# Altium footprint library MLACHD_D.PCBLIB: 41 footprints (part 1 of 3)
Each footprint in its own frame and in the unit in brackets; x right, y up, seen from the top. Pads: shape width x height; smd on the part's side, far side on the other; paste and mask are expansions set on the pad; w line width, h text height; cw(c..) or ccw(c..) is an arc to the next point about the centre after c.
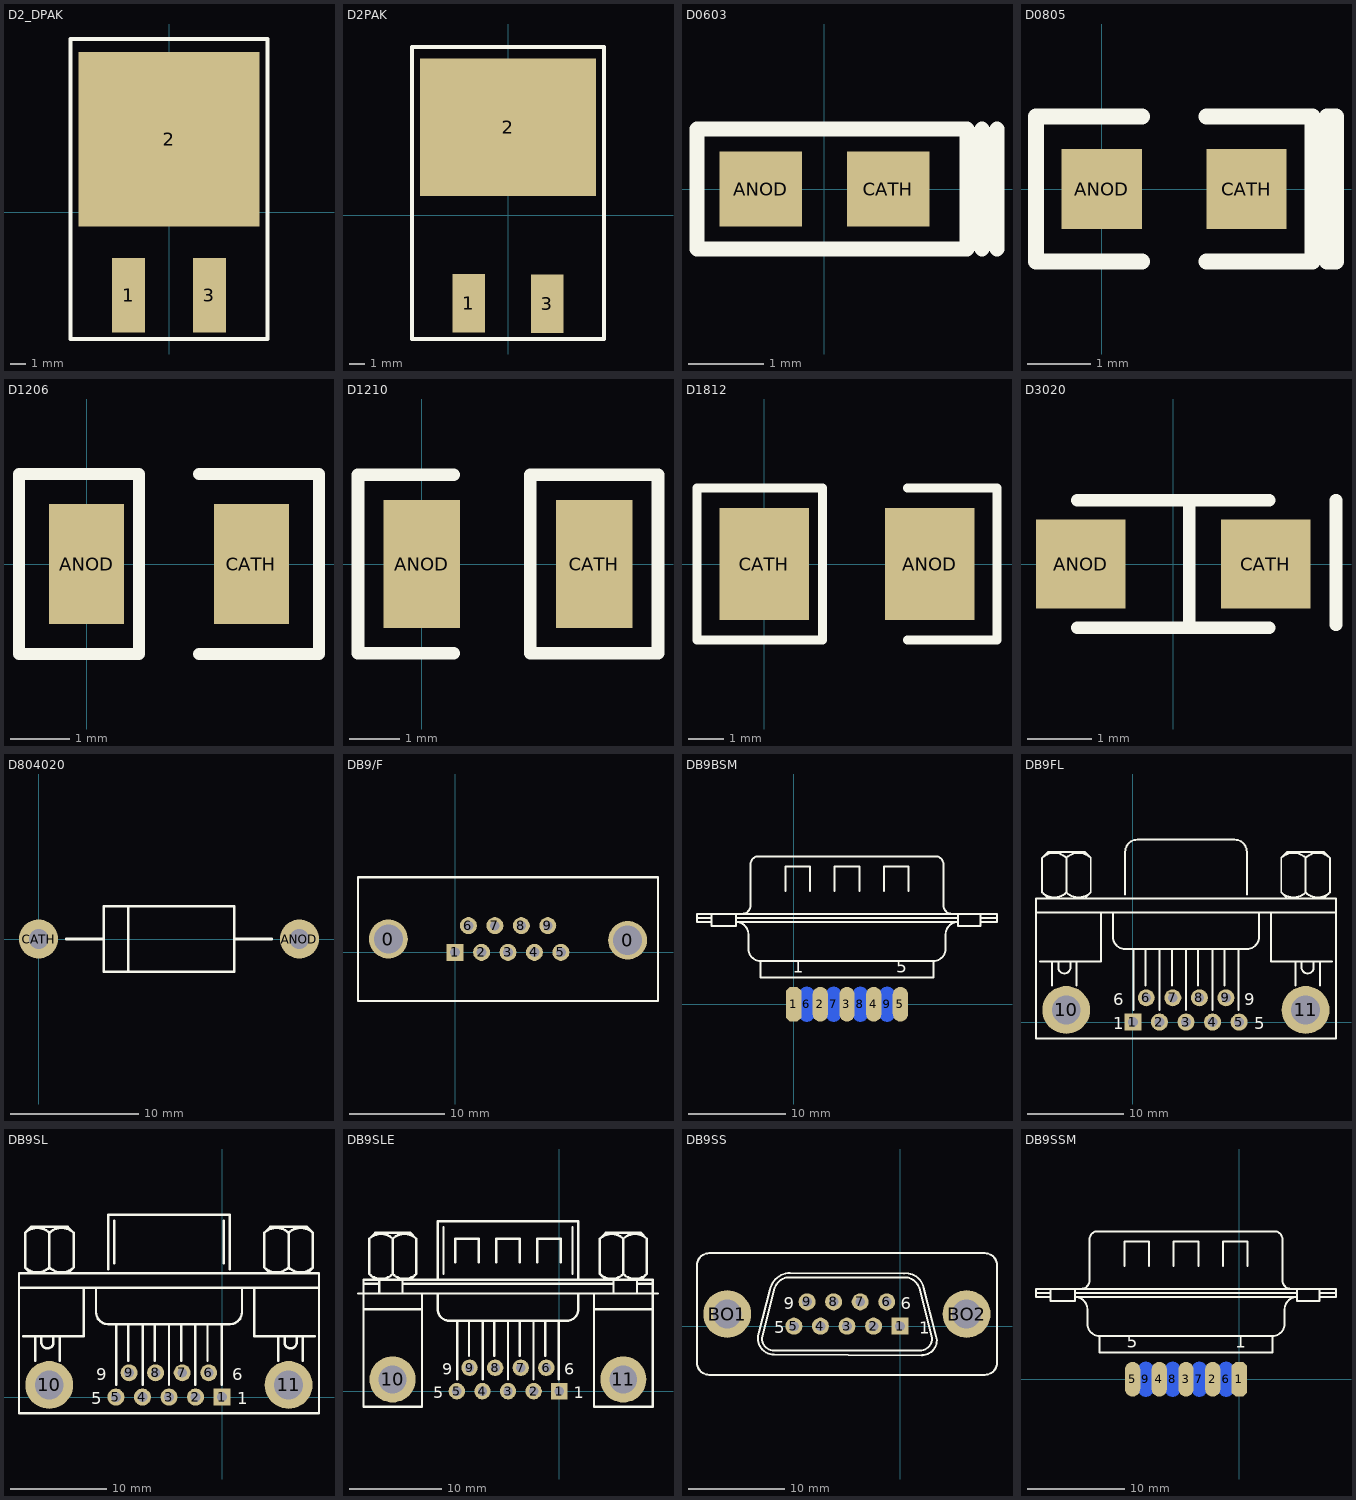
[diagram p0: the footprints below, top view; thin cyan lines are the x and y axes]

## D2_DPAK [mm]
pads (3):
  rect 2.083x4.7 smd paste-1.5: 1(-2.54,-5.255) 3(2.54,-5.255)
  rect 11.4x11 smd paste-3: 2(0,4.6)
TopOverlay:
  lines w0.254: -6.223,-8.001 -6.223,10.922 6.223,10.922 6.223,-8.001 -6.223,-8.001
TopPaste:
  region: -5.6,10 5.6,10 5.6,1.2 2.9,1.2 2.9,-0.8 -2.9,-0.8 -2.9,1.2 -5.6,1.2
  region: -3.1,-3 -1.6,-3 -1.6,-7.5 -3.5,-7.5 -3.5,-3.8 -3.1,-3.8
  region: 3.1,-3 1.6,-3 1.6,-7.5 3.5,-7.5 3.5,-3.8 3.1,-3.8
3D body: height 4.8, standoff 0, extent -5.4,-0.92 5.4,8.68
3D body: height 1.4, standoff 0, extent -5.4,2.78 5.4,9.88
3D body: height 3.2, standoff 2.7, extent -3.04,-3.58 -2.04,-0.92
3D body: height 3.2, standoff 0, extent -3.04,-3.58 -2.04,-2.98
3D body: height 0.5, standoff 0, extent -3.04,-5.88 -2.04,-2.98
3D body: height 0.5, standoff 0, extent 2.04,-5.88 3.04,-2.98
3D body: height 3.2, standoff 0, extent 2.04,-3.58 3.04,-2.98
3D body: height 3.2, standoff 2.7, extent 2.04,-3.58 3.04,-0.92

## D2PAK [mil]
pads (3):
  rect 82x150 smd: 1(-100,-224) 3(100,-225)
  rect 450x350 smd: 2(0,225)
TopOverlay:
  lines w10: -245,-315 -245,430 245,430 245,-315 -245,-315
3D body: height 188.98, standoff 0, extent -212.6,-36.22 212.6,341.73
3D body: height 55.12, standoff 0, extent -212.6,109.45 212.6,388.98
3D body: height 125.98, standoff 106.3, extent -119.69,-140.94 -80.31,-36.22
3D body: height 125.98, standoff 0, extent -119.69,-140.94 -80.31,-117.32
3D body: height 19.68, standoff 0, extent -119.69,-231.5 -80.31,-117.32
3D body: height 19.68, standoff 0, extent 80.31,-231.5 119.69,-117.32
3D body: height 125.98, standoff 0, extent 80.31,-140.94 119.69,-117.32
3D body: height 125.98, standoff 106.3, extent 80.31,-140.94 119.69,-36.22

## D0603 [mm]
pads (2):
  rect 1.1x1 smd: ANOD(-0.85,0) CATH(0.85,0)
TopOverlay:
  lines w0.2: 2.1,-0.8 2.1,0.8 ; 2.3,-0.8 2.3,0.8 ; -1.7,-0.8 -1.7,0.8 1.9,0.8 1.9,-0.8 -1.7,-0.8
3D body: height 1.35, standoff 0, extent 0.237,-0.6 0.537,0.6
3D body: height 1, standoff 0, extent -0.8,-0.4 -0.3,0.4
3D body: height 1, standoff 0, extent 0.4,-0.4 0.8,0.4
3D body: height 1, standoff 0, extent -0.3,-0.4 0.4,0.4
3D body: height 1.3, standoff 0, extent -0.764,-0.7 0.637,0.7
3D body: height 1.3, standoff 0, extent 0.637,-0.7 0.937,0.7
3D body: height 1.3, standoff 0, extent -1.064,-0.7 -0.764,0.7

## D0805 [mil]
pads (2):
  rect 50x50 smd: ANOD(0,0) CATH(90,0)
TopOverlay:
  lines w10: 25,-45 -41,-45 -41,45 25,45 ; 65,-45 131,-45 131,39.37 ; 65,45 131,45 ; 140,-45 145.67,-45 145.67,45 140,45 140,-45
3D body: height 51.18, standoff 0, extent 3.13,-27.56 14.94,27.56
3D body: height 51.18, standoff 0, extent 70.06,-27.56 81.87,27.56
3D body: height 51.18, standoff 0, extent 14.94,-27.56 70.06,27.56

## D1206 [mil]
pads (2):
  rect 50x80 smd: ANOD(0,0) CATH(110,0)
TopOverlay:
  lines w8: 75,-60 155,-60 155,60 75,60 ; -45,-60 35,-60 35,60 -45,60 -45,-60

## D1210 [mil]
pads (2):
  rect 60x100 smd: ANOD(0,0) CATH(135,0)
TopOverlay:
  lines w10: 25,-70 -50,-70 -50,70 25,70 ; 85,-70 85,70 185,70 185,-70 85,-70

## D1812 [mil]
pads (2):
  rect 100x125 smd: ANOD(185,0) CATH(0,0)
TopOverlay:
  lines w10: 160,-85 260,-85 260,85 160,85 ; -75,-85 -75,85 65,85 65,-85 -75,-85

## D3020 [mm]
pads (2):
  rect 1.4x1.4 smd: ANOD(-1.45,0) CATH(1.45,0)
TopOverlay:
  lines w0.2: -1.5,-1 1.5,-1 ; -1.5,1 1.5,1 ; 0.25,-1 0.25,1 ; 2.55,-0.95 2.55,1
3D body: height 1, standoff 0, extent -1.35,-1 1.35,1
3D body: height 1.3, standoff 1, extent -1.35,-1 1.35,1
3D body: height 1.4, standoff 1.3, extent -1.2,-0.85 1.2,0.85
3D body: height 0.65, standoff 0, extent 1.35,-0.7 1.5,0.7
3D body: height 0.65, standoff 0, extent -1.5,-0.7 -1.35,0.7

## D804020 [mil]
pads (2):
  round 120 hole 60: ANOD(800,0) CATH(0,0)
TopOverlay:
  lines w8: 85,0 200,0 ; 275,-100 275,100 ; 600,0 715,0 ; 200,-100 600,-100 600,100 200,100 200,-100

## DB9/F [mil]
pads (11):
  round 160 hole 120: 0(-275,55) 0(711,50)
  rect 70x70 hole 40: 1(0,0)
  round 70 hole 40: 2(109,0) 3(218,0) 4(327,0) 5(436,0) 6(55,110) 7(164,110) 8(273,110) 9(382,110)
TopOverlay:
  lines w8: -400,-200 836,-200 836,310
  lines w10: -400,-200 -400,310 836,310

## DB9BSM [mil]
pads (9):
  oct 62.5x141.67 smd: 1(0,0)
  oval 62.5x141.67 smd: 2(108.33,0) 3(216.67,0) 4(325,0) 5(433.33,0)
  oval 62.5x141.67 smd far side: 6(54.17,0) 7(162.5,0) 8(270.83,0) 9(379.17,0)
TopOverlay:
  lines w8: -391.67,350 -333.33,350 ; -333.33,333.33 -391.67,333.33 -391.67,366.67 825,366.67 825,333.33 758.33,333.33 ; -333.33,366.67 -333.33,316.67 -233.33,316.67 -233.33,366.67 ; -233.33,350 666.67,350 ; -208.33,366.67 ccw(c-208.33,400) -175,400 -175,566.67 cw(c-141.67,566.67) -141.67,600 575,600 cw(c575,566.67) 608.33,566.67 608.33,400 ccw(c641.67,400) 641.67,366.67 ; -33.33,458.33 -33.33,558.33 66.67,558.33 66.67,458.33 ; 166.67,458.33 166.67,558.33 266.67,558.33 266.67,458.33 ; 366.67,458.33 366.67,558.33 466.67,558.33 466.67,458.33 ; 666.67,366.67 666.67,316.67 758.33,316.67 758.33,366.67 ; 758.33,350 825,350 ; -133.33,175 cw(c-133.33,225) -183.33,225 -183.33,283.33 ccw(c-233.33,283.33) -233.33,333.33 666.67,333.33 ccw(c666.67,283.33) 616.67,283.33 616.67,225 cw(c566.67,225) 566.67,175 ; -133.33,175 566.67,175 ; -133.33,175 -133.33,108.33 566.67,108.33 566.67,175
  text "5" at 416.67,128.33 h50
  text "1" at -3.33,128.33 h50

## DB9FL [mil]
pads (11):
  rect 70x70 hole 40: 1(0,0)
  round 70 hole 40: 2(109.17,0) 3(218.33,0) 4(327.5,0) 5(436.67,0) 6(55,100) 7(164.17,100) 8(273.33,100) 9(382.5,100)
  round 196.67 hole 118.33: 10(-274.17,50) 11(710,50)
TopOverlay:
  lines w8: -398.33,450 835,450 ; -381.67,250 -131.67,250 -131.67,450 ; -373.42,533.25 ccw(c-323.33,583.33) -273.25,533.25 ; -373.42,675.09 cw(c-323.33,625) -273.25,675.09 ; -348.33,508.33 -373.33,533.33 -373.33,675 -348.33,700 -198.33,700 -173.33,675 -173.33,533.33 -198.33,508.33 ; -331.67,150 -331.67,250 ; -306.67,250 -306.67,225 ccw(c-281.67,225) -256.67,225 -256.67,250 ; -273.42,533.25 ccw(c-223.33,583.33) -173.25,533.25 ; -273.42,675.09 cw(c-223.33,625) -173.25,675.09 ; -273.33,533.33 -273.33,675 ; -231.67,150 -231.67,250 ; -81.67,450 -81.67,350 ccw(c-31.67,350) -31.67,300 468.33,300 ccw(c468.33,350) 518.33,350 518.33,450 ; -31.67,525 -31.67,700 cw(c18.33,700) 18.33,750 418.33,750 cw(c418.33,700) 468.33,700 468.33,525 ; 1.67,50 1.67,300 ; 51.67,150 51.67,300 ; 110,50 110,300 ; 160,150 160,300 ; 218.33,50 218.33,300 ; 268.33,150 268.33,300 ; 326.67,50 326.67,300 ; 376.67,150 376.67,300 ; 435,50 435,300 ; 568.33,450 568.33,250 818.33,250 ; 609.91,533.25 ccw(c660,583.33) 710.09,533.25 ; 609.91,675.09 cw(c660,625) 710.09,675.09 ; 635,508.33 610,533.33 610,675 635,700 785,700 810,675 810,533.33 785,508.33 ; 668.33,150 668.33,250 ; 693.33,250 693.33,225 ccw(c718.33,225) 743.33,225 743.33,250 ; 709.91,533.25 ccw(c760,583.33) 810.09,533.25 ; 709.91,675.09 cw(c760,625) 810.09,675.09 ; 710,533.33 710,675 ; 768.33,150 768.33,250 ; -398.33,-66.67 835,-66.67 835,508.33 -398.33,508.33 -398.33,-66.67
  text "9" at 458.33,70 h50
  text "5" at 498.33,-30 h50
  text "1" at -81.67,-30 h50
  text "6" at -81.67,70 h50
3D body: height 391.73, standoff -124.02, extent -401.57,-95.47 826.38,717.52

## DB9SL [mil]
pads (11):
  rect 70x70 hole 40: 1(0,0)
  round 70 hole 40: 2(-109.17,0) 3(-218.33,0) 4(-327.5,0) 5(-436.67,0) 6(-55,100) 7(-164.17,100) 8(-273.33,100) 9(-382.5,100)
  round 196.67 hole 118.33: 10(-710.83,50) 11(273.33,50)
TopOverlay:
  lines w10: -835,450 398.33,450 ; -818.33,250 -568.33,250 -568.33,450 ; -810.09,533.25 ccw(c-760,583.33) -709.91,533.25 ; -810.09,675.09 cw(c-760,625) -709.91,675.09 ; -785,508.33 -810,533.33 -810,675 -785,700 -635,700 -610,675 -610,533.33 -635,508.33 ; -768.33,150 -768.33,250 ; -743.33,250 -743.33,225 ccw(c-718.33,225) -693.33,225 -693.33,250 ; -710.09,533.25 ccw(c-660,583.33) -609.91,533.25 ; -710.09,675.09 cw(c-660,625) -609.91,675.09 ; -710,533.33 -710,675 ; -668.33,150 -668.33,250 ; -518.33,450 -518.33,350 ccw(c-468.33,350) -468.33,300 31.67,300 ccw(c31.67,350) 81.67,350 81.67,450 ; -468.33,525 -468.33,750 31.67,750 31.67,525 ; -443.33,550 -443.33,725 ; -435,50 -435,300 ; -385,150 -385,300 ; -326.67,50 -326.67,300 ; -276.67,150 -276.67,300 ; -218.33,50 -218.33,300 ; -168.33,150 -168.33,300 ; -110,50 -110,300 ; -60,150 -60,158.33 -60,300 ; -1.67,50 -1.67,300 ; 6.67,550 6.67,725 ; 131.67,450 131.67,250 381.67,250 ; 173.25,533.25 ccw(c223.33,583.33) 273.42,533.25 ; 173.25,675.09 cw(c223.33,625) 273.42,675.09 ; 198.33,508.33 173.33,533.33 173.33,675 198.33,700 348.33,700 373.33,675 373.33,533.33 348.33,508.33 ; 231.67,150 231.67,250 ; 256.67,250 256.67,225 ccw(c281.67,225) 306.67,225 306.67,250 ; 273.25,533.25 ccw(c323.33,583.33) 373.42,533.25 ; 273.25,675.09 cw(c323.33,625) 373.42,675.09 ; 273.33,533.33 273.33,675 ; 331.67,150 331.67,250 ; -835,-66.67 -835,508.33 398.33,508.33 398.33,-66.67 -835,-66.67
  text "9" at -518.33,70 h50
  text "5" at -538.33,-30 h50
  text "1" at 61.67,-30 h50
  text "6" at 41.67,70 h50

## DB9SLE [mil]
pads (11):
  rect 70x70 hole 40: 1(0,0)
  round 70 hole 40: 2(-109.17,0) 3(-218.33,0) 4(-327.5,0) 5(-436.67,0) 6(-55,100) 7(-164.17,100) 8(-273.33,100) 9(-382.5,100)
  round 196.67 hole 118.33: 10(-710.83,50) 11(273.33,50)
TopOverlay:
  lines w10: -858.27,416.67 421.26,416.67 ; -835,350 -585,350 ; -835,458.33 -768.33,458.33 ; -810.09,499.91 ccw(c-760,550) -709.91,499.91 ; -810.09,650.09 cw(c-760,600) -709.91,650.09 ; -785,475 -810,500 -810,650 -785,675 -635,675 -610,650 -610,500 -635,475 ; -768.33,416.67 -768.33,475 ; -710.09,499.91 ccw(c-660,550) -609.91,499.91 ; -710.09,650.09 cw(c-660,600) -609.91,650.09 ; -710,500 -710,650 ; -668.33,416.67 -668.33,475 ; -668.33,458.33 231.67,458.33 ; -585,416.67 -585,-66.67 -835,-66.67 -835,475 398.33,475 398.33,-66.67 148.33,-66.67 148.33,416.67 ; -518.33,416.67 -518.33,350 ccw(c-468.33,350) -468.33,300 31.67,300 ccw(c31.67,350) 81.67,350 81.67,416.67 ; -518.33,475 -518.33,725 81.67,725 81.67,475 ; -493.33,500 -493.33,700 ; -443.33,550 -443.33,650 -343.33,650 -343.33,550 ; -435,50 -435,300 ; -385,150 -385,300 ; -326.67,50 -326.67,300 ; -276.67,150 -276.67,300 ; -268.33,550 -268.33,650 -168.33,650 -168.33,550 ; -218.33,50 -218.33,300 ; -168.33,150 -168.33,300 ; -110,50 -110,300 ; -93.33,550 -93.33,650 6.67,650 6.67,550 ; -60,150 -60,300 ; -1.67,50 -1.67,300 ; 56.67,500 56.67,700 ; 148.33,350 398.33,350 ; 173.25,499.91 ccw(c223.33,550) 273.42,499.91 ; 173.25,650.09 cw(c223.33,600) 273.42,650.09 ; 198.33,475 173.33,500 173.33,650 198.33,675 348.33,675 373.33,650 373.33,500 348.33,475 ; 231.67,416.67 231.67,475 ; 273.25,499.91 ccw(c323.33,550) 373.42,499.91 ; 273.25,650.09 cw(c323.33,600) 373.42,650.09 ; 273.33,500 273.33,650 ; 331.67,416.67 331.67,475 ; 331.67,458.33 398.33,458.33
  text "9" at -498.33,70 h50
  text "5" at -538.33,-30 h50
  text "6" at 21.67,70 h50
  text "1" at 61.67,-30 h50

## DB9SS [mil]
pads (11):
  rect 70x70 hole 40: 1(0,0)
  round 70 hole 40: 2(-109.17,0) 3(-218.33,0) 4(-327.5,0) 5(-436.67,0) 6(-55,100) 7(-164.17,100) 8(-273.33,100) 9(-382.5,100)
  round 196.67 hole 118.33: BO1(-710.83,50) BO2(273.33,50)
TopOverlay:
  lines w8: -580,-23.33 -535,150 ; -579.7,-23.95 ccw(c-518.33,-50) -518.33,-116.67 90,-120 ; -535.1,149.55 cw(c-451.67,133.33) -451.67,218.33 15,216.67 ; -518.33,150 -568.33,-50 ccw(c-518.33,-50) -518.33,-100 81.67,-100 ccw(c81.67,-50) 131.67,-50 81.67,150 ; -517.97,149.86 cw(c-451.67,133.33) -468.2,199.64 ; -468.33,200 31.67,200 ; 15.41,217.08 cw(c23.33,141.67) 97.22,158.72 ; 31.53,199.64 cw(c15,133.33) 81.3,149.86 ; 90,-119.17 ccw(c90,-58.33) 148.48,-41.57 ; 96.67,158.33 148.33,-41.67 ; -835,-150 ccw(c-785,-150) -785,-200 348.33,-200 ccw(c348.33,-150) 398.33,-150 398.33,250 ccw(c348.33,250) 348.33,300 -785,300 ccw(c-785,250) -835,250 -835,-150
  text "9" at -478.33,70 h50
  text "5" at -518.33,-30 h50
  text "1" at 78.27,-31.3 h50
  text "6" at 1.67,70 h50

## DB9SSM [mil]
pads (9):
  oct 62.5x141.67 smd: 1(0,0)
  oval 62.5x141.67 smd: 2(-108.33,0) 3(-216.67,0) 4(-325,0) 5(-433.33,0)
  oval 62.5x141.67 smd far side: 6(-54.17,0) 7(-162.5,0) 8(-270.83,0) 9(-379.17,0)
TopOverlay:
  lines w8: -825,350 -766.67,350 ; -766.67,333.33 -825,333.33 -825,366.67 391.67,366.67 391.67,333.33 325,333.33 ; -766.67,366.67 -766.67,316.67 -666.67,316.67 -666.67,366.67 ; -666.67,350 233.33,350 ; -641.67,366.67 ccw(c-641.67,400) -608.33,400 -608.33,566.67 cw(c-575,566.67) -575,600 141.67,600 cw(c141.67,566.67) 175,566.67 175,400 ccw(c208.33,400) 208.33,366.67 ; -466.67,458.33 -466.67,558.33 -366.67,558.33 -366.67,458.33 ; -266.67,458.33 -266.67,558.33 -166.67,558.33 -166.67,458.33 ; -66.67,458.33 -66.67,558.33 33.33,558.33 33.33,458.33 ; 233.33,366.67 233.33,316.67 325,316.67 325,366.67 ; 325,350 391.67,350 ; -566.67,175 cw(c-566.67,225) -616.67,225 -616.67,283.33 ccw(c-666.67,283.33) -666.67,333.33 233.33,333.33 ccw(c233.33,283.33) 183.33,283.33 183.33,225 cw(c133.33,225) 133.33,175 ; -566.67,175 -566.67,108.33 133.33,108.33 133.33,175 ; -566.67,175 133.33,175
  text "5" at -456.67,128.33 h50
  text "1" at -16.67,128.33 h50